# Altium footprint library PCB1.PcbLib: 23 footprints (part 1 of 2)
Each footprint in its own frame and in the unit in brackets; x right, y up, seen from the top. Pads: shape width x height; smd on the part's side, far side on the other; paste and mask are expansions set on the pad; w line width, h text height; cw(c..) or ccw(c..) is an arc to the next point about the centre after c.
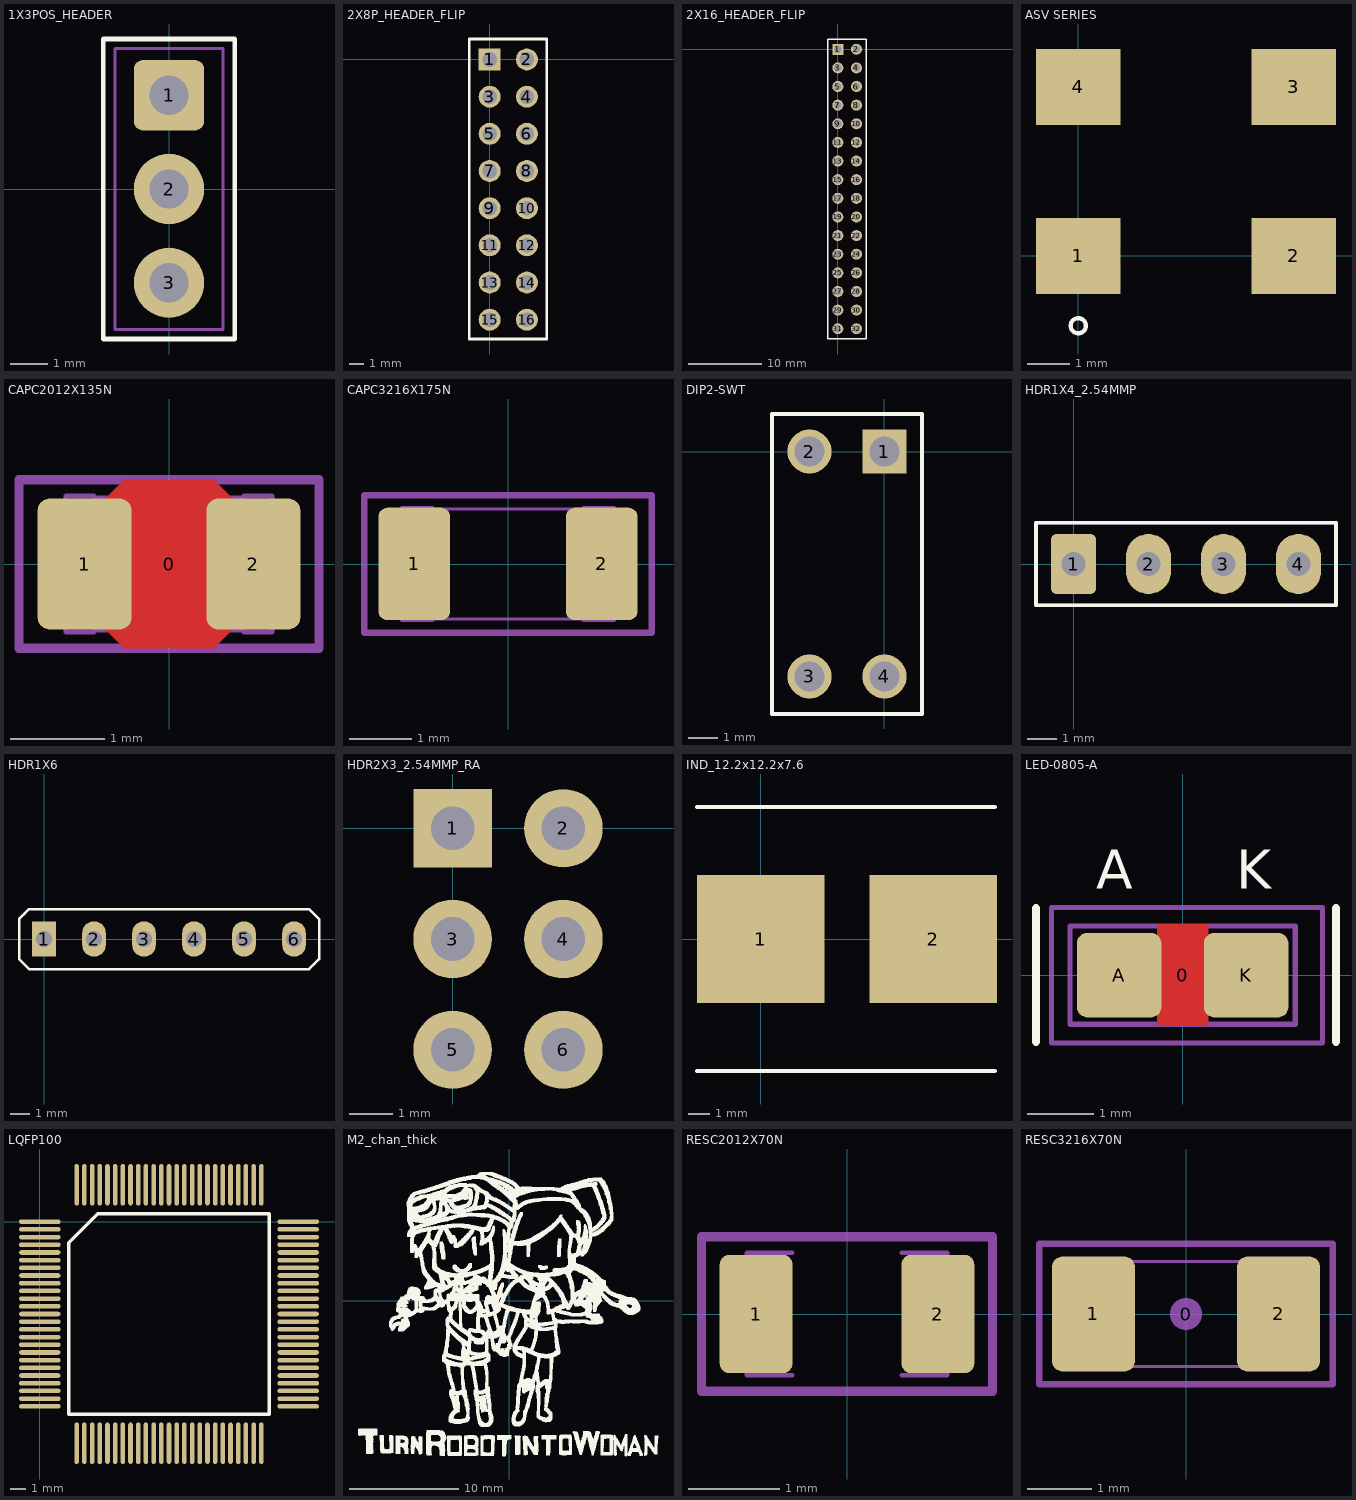
[diagram p0: the footprints below, top view; thin cyan lines are the x and y axes]

## 1X3POS_HEADER [mil]
pads (3):
  rrect25% 75x75 hole 42: 1(0,100)
  round 75 hole 42: 2(0,0) 3(0,-100)
Top Overlay:
  lines w5: -70,-160 70,-160 70,160 -70,160 -70,-160
Mechanical 13:
  lines w3: -57.47,-150 57.49,-150 57.49,150 -57.47,150 -57.47,-150
3D body "PinHeaderX3.stp": height 335.04, standoff -144.88, extent -57.47,-150 57.49,150

## 2X8P_HEADER_FLIP [mm]
pads (16):
  rect 1.5x1.5 hole 1 mask+0.102: 1(0,0)
  round 1.5 hole 1 mask+0.102: 2(2.54,0) 3(0,-2.54) 4(2.54,-2.54) 5(0,-5.08) 6(2.54,-5.08) 7(0,-7.62) 8(2.54,-7.62) 9(0,-10.16) 10(2.54,-10.16) 11(0,-12.7) 12(2.54,-12.7) 13(0,-15.24) 14(2.54,-15.24) 15(0,-17.78) 16(2.54,-17.78)
Top Overlay:
  lines w0.2: -1.4,-19.1 -1.4,1.4 3.9,1.4 3.9,-19.1 -1.4,-19.1
3D body "Pin Header 2x8 TH Pitch 2.54mm.stp": height 1.4, standoff -11.3, extent -1.27,-19.05 3.81,1.27

## 2X16_HEADER_FLIP [mm]
pads (32):
  rect 1.5x1.5 hole 1 mask+0.102: 1(0,0)
  round 1.5 hole 1 mask+0.102: 2(2.54,0) 3(0,-2.54) 4(2.54,-2.54) 5(0,-5.08) 6(2.54,-5.08) 7(0,-7.62) 8(2.54,-7.62) 9(0,-10.16) 10(2.54,-10.16) 11(0,-12.7) 12(2.54,-12.7) 13(0,-15.24) 14(2.54,-15.24) 15(0,-17.78) 16(2.54,-17.78) 17(0,-20.32) 18(2.54,-20.32) 19(0,-22.86) 20(2.54,-22.86) 21(0,-25.4) 22(2.54,-25.4) 23(0,-27.94) 24(2.54,-27.94) 25(0,-30.48) 26(2.54,-30.48) 27(0,-33.02) 28(2.54,-33.02) 29(0,-35.56) 30(2.54,-35.56) 31(0,-38.1) 32(2.54,-38.1)
Top Overlay:
  lines w0.2: -1.4,-39.5 3.9,-39.5 3.9,1.4 -1.4,1.4 -1.4,-39.5
3D body "Pin Header 2x16 TH Pitch 2.54mm.stp": height 1.4, standoff -11.3, extent -1.27,-39.37 3.81,1.27

## ASV SERIES [mm]
pads (4):
  rect 2x1.8 smd mask+0.102: 1(0,0) 2(5.1,0) 3(5.1,4) 4(0,4)
Top Overlay:
  circle w0.1: c0,-1.651 r0.18
3D body "ASV.STEP": height 1.8, standoff 0, extent -0.9,-0.44 6.1,4.64

## CAPC2012X135N [mm]
pads (3):
  round 0.254 on Mech15: 0(0,0)
  rrect25% 1x1.4 smd: 1(-0.9,0) 2(0.9,0)
Top Layer:
  pour cut-out: -0.675,0.7 -0.475,0.9 0.475,0.9 0.675,0.7 0.675,-0.7 0.475,-0.9 -0.475,-0.9 -0.675,-0.7
Mechanical 13:
  lines w0.05: -0.8,-0.705 0.8,-0.705 ; -0.8,0.705 0.8,0.705 ; -1.1,-0.725 -1.1,0.725 -0.8,0.725 -0.8,-0.725 -1.1,-0.725 ; 0.8,-0.725 1.1,-0.725 1.1,0.725 0.8,0.725 0.8,-0.725
Mechanical 15:
  lines w0.1: -1.6,-0.9 -1.6,0.9 1.6,0.9 1.6,-0.9 -1.6,-0.9
3D body "CAP_0805.STEP": height 1.34, standoff -0.01, extent -1.1,-0.725 1.1,0.725

## CAPC3216X175N [mm]
pads (2):
  rrect25% 1.15x1.8 smd: 1(-1.5,0) 2(1.5,0)
Mechanical 13:
  lines w0.05: -1.2,-0.88 1.2,-0.88 ; -1.2,0.88 1.2,0.88 ; -1.7,-0.9 -1.7,0.9 -1.2,0.9 -1.2,-0.9 -1.7,-0.9 ; 1.2,-0.9 1.2,0.9 1.7,0.9 1.7,-0.9 1.2,-0.9
Mechanical 15:
  lines w0.1: -2.3,-1.1 2.3,-1.1 2.3,1.1 -2.3,1.1 -2.3,-1.1
3D body "CAPC3216X175N - 1206 (3216 metric).STEP": height 1.75, standoff 0, extent -1.7,-0.9 1.7,0.9

## DIP2-SWT [mm]
pads (4):
  rect 1.5x1.5 hole 1: 1(0,0)
  round 1.5 hole 1: 2(-2.54,0) 3(-2.54,-7.62) 4(0,-7.62)
Top Overlay:
  lines w0.127: -3.81,-8.89 -3.81,1.27 1.27,1.27 1.27,-8.89 -3.81,-8.89

## HDR1X4_2.54MMP [mil]
pads (4):
  rrect25% 60x80 hole 32: 1(0,0)
  oval 60x80 hole 32: 2(100,0) 3(200,0) 4(300,0)
Top Overlay:
  lines w5: -50,-55 -50,55 350,55 350,-55 -50,-55
Mechanical 13:
  lines w5: -50,-55 350,-55 350,55 -50,55 -50,-55

## HDR1X6 [mm]
pads (6):
  rect 1.2x1.8 hole 0.813: 1(0,0)
  oval 1.2x1.8 hole 0.813: 2(2.54,0) 3(5.08,0) 4(7.62,0) 5(10.16,0) 6(12.7,0)
Top Overlay:
  lines w0.127: -1.27,-1.016 -1.27,1.016 -1.016,1.27 -0.762,1.524 13.462,1.524 13.716,1.27 13.97,1.016 13.97,-1.016 13.716,-1.27 13.462,-1.524 -0.762,-1.524 -1.27,-1.016
Mechanical 13:
  lines w0.076: -1.016,-1.27 -1.27,-1.016 -1.27,1.016 -1.016,1.27 ; 13.716,-1.27 13.97,-1.016 13.97,1.016 13.716,1.27

## HDR2X3_2.54MMP_RA [mm]
pads (6):
  rect 1.8x1.8 hole 1 mask+0.102: 1(0,0)
  round 1.8 hole 1 mask+0.102: 2(2.54,0) 3(0,-2.54) 4(2.54,-2.54) 5(0,-5.08) 6(2.54,-5.08)
3D body "Pin Header 2x3 TH Angle Pitch 2.54mm.stp": height 5.63, standoff -3.2, extent -0.276,-6.35 13.462,1.27

## IND_12.2x12.2x7.6 [mm]
pads (2):
  rect 6x6 smd mask+0.102: 1(0,0) 2(8.1,0)
Top Overlay:
  lines w0.2: -3,-6.2 11,-6.2 ; -3,6.2 11,6.2

## LED-0805-A [mil]
pads (3):
  round 20 on Mech15: 0(0,0)
  rrect25% 50x50 smd: A(-37.5,0) K(37.5,0)
Top Layer:
  pour cut-out: -15,30 15,30 15,-30 -15,-30
Top Overlay:
  lines w5: -86.61,-39.37 -86.61,39.37 ; 90.55,-39.37 90.55,39.37
  text "A" at -51.18,43.31 h39.37
  text "K" at 31.5,43.31 h39.37
Mechanical 13:
  lines w3: -66.5,-29 -66.5,29 66.5,29 66.5,-29 -66.5,-29
Mechanical 15:
  lines w3: -77.5,-40 -77.5,40 82.5,40 82.5,-40 -77.5,-40
3D body: height 3.94, standoff 0, extent -11.81,-15.75 11.81,15.75
3D body: height 3.94, standoff 0, extent -39.37,-24.61 39.37,24.61
3D body: height 11.81, standoff 3.94, extent -39.37,-24.61 39.37,24.61
3D body: height 31.5, standoff 11.81, extent -26.49,-24.61 28.65,24.6

## LQFP100 [mm]
pads (100):
  oval 2.7x0.3 smd: 1(0,0) 2(0,-0.5) 3(0,-1) 4(0,-1.5) 5(0,-2) 6(0,-2.5) 7(0,-3) 8(0,-3.5) 9(0,-4) 10(0,-4.5) 11(0,-5) 12(0,-5.5) 13(0,-6) 14(0,-6.5) 15(0,-7) 16(0,-7.5) 17(0,-8) 18(0,-8.5) 19(0,-9) 20(0,-9.5) 21(0,-10) 22(0,-10.5) 23(0,-11) 24(0,-11.5) 25(0,-12) 51(16.8,-12) 52(16.8,-11.5) 53(16.8,-11) 54(16.8,-10.5) 55(16.8,-10) 56(16.8,-9.5) 57(16.8,-9) 58(16.8,-8.5) 59(16.8,-8) 60(16.8,-7.5) 61(16.8,-7) 62(16.8,-6.5) 63(16.8,-6) 64(16.8,-5.5) 65(16.8,-5) 66(16.8,-4.5) 67(16.8,-4) 68(16.8,-3.5) 69(16.8,-3) 70(16.8,-2.5) 71(16.8,-2) 72(16.8,-1.5) 73(16.8,-1) 74(16.8,-0.5) 75(16.8,0)
  oval 0.3x2.7 smd: 26(2.4,-14.4) 27(2.9,-14.4) 28(3.4,-14.4) 29(3.9,-14.4) 30(4.4,-14.4) 31(4.9,-14.4) 32(5.4,-14.4) 33(5.9,-14.4) 34(6.4,-14.4) 35(6.9,-14.4) 36(7.4,-14.4) 37(7.9,-14.4) 38(8.4,-14.4) 39(8.9,-14.4) 40(9.4,-14.4) 41(9.9,-14.4) 42(10.4,-14.4) 43(10.9,-14.4) 44(11.4,-14.4) 45(11.9,-14.4) 46(12.4,-14.4) 47(12.9,-14.4) 48(13.4,-14.4) 49(13.9,-14.4) 50(14.4,-14.4) 76(14.4,2.4) 77(13.9,2.4) 78(13.4,2.4) 79(12.9,2.4) 80(12.4,2.4) 81(11.9,2.4) 82(11.4,2.4) 83(10.9,2.4) 84(10.4,2.4) 85(9.9,2.4) 86(9.4,2.4) 87(8.9,2.4) 88(8.4,2.4) 89(7.9,2.4) 90(7.4,2.4) 91(6.9,2.4) 92(6.4,2.4) 93(5.9,2.4) 94(5.4,2.4) 95(4.9,2.4) 96(4.4,2.4) 97(3.9,2.4) 98(3.4,2.4) 99(2.9,2.4) 100(2.4,2.4)
Top Overlay:
  lines w0.2: 1.885,-12.515 14.915,-12.515 14.915,0.515 3.77,0.515 1.885,-1.37 1.885,-12.515
3D body "User Library-lqfp100-1.STEP": height 1.5, standoff 0.02, extent 0.4,-13.994 16.4,2.006

## M2_chan_thick [mm]
Top Overlay:
  drawing of 11816 lines, arcs and shapes, not listed

## RESC2012X70N [mm]
pads (2):
  rrect25% 0.8x1.3 smd: 1(-1,0) 2(1,0)
Mechanical 13:
  lines w0.05: -0.6,-0.675 -1.1,-0.675 -1.1,0.675 -0.6,0.675 ; 0.6,-0.675 1.1,-0.675 1.1,0.675 0.6,0.675
Mechanical 15:
  lines w0.1: -1.6,-0.85 1.6,-0.85 1.6,0.85 -1.6,0.85 -1.6,-0.85
3D body "RES 0805 (2012 metric).STEP": height 0.69, standoff -0.01, extent -1.1,-0.675 1.1,0.675

## RESC3216X70N [mm]
pads (3):
  round 0.508 on Mech15: 0(0,0)
  rrect25% 1.3x1.8 smd: 1(-1.45,0) 2(1.45,0)
Mechanical 13:
  lines w0.05: 1.025,-0.824 -1.025,-0.824 1.025,-0.824 ; -1.625,-0.825 -1.625,0.825 -1.025,0.825 -1.025,-0.825 -1.625,-0.825 ; -1.025,0.824 1.025,0.824 -1.025,0.824 ; 1.025,-0.825 1.625,-0.825 1.625,0.825 1.025,0.825 1.025,-0.825
Mechanical 15:
  lines w0.1: -2.3,-1.1 2.3,-1.1 2.3,1.1 -2.3,1.1 -2.3,-1.1
3D body "RES 1206 (3216 metric).STEP": height 0.69, standoff -0.01, extent -1.625,-0.825 1.625,0.825